# Altium footprint library 125-1189.PCBLIB: 1 footprints
Each footprint in its own frame and in the unit in brackets; x right, y up, seen from the top. Pads: shape width x height; smd on the part's side, far side on the other; paste and mask are expansions set on the pad; w line width, h text height; cw(c..) or ccw(c..) is an arc to the next point about the centre after c.
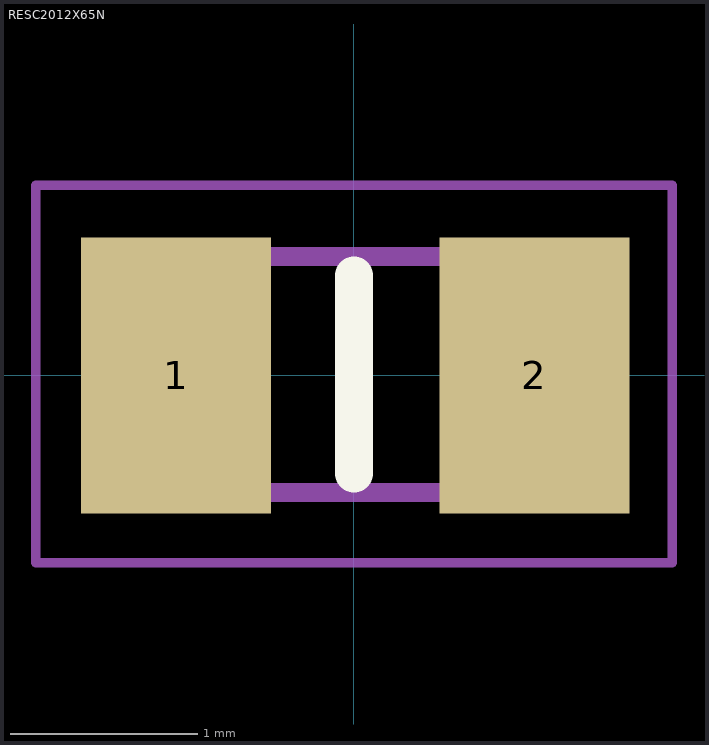
[diagram p0: the footprint, top view; thin cyan lines are the x and y axes]

## RESC2012X65N [mil]
pads (2):
  rect 40x58 smd: 1(-37.4,0) 2(38,0)
Top Overlay:
  lines w8: 0,-20.67 0,21
Courtyard Bottom:
  lines w2: -66.93,-39.37 67,-39.37 67,40 -66.93,40 -66.93,-39.37
  lines w4: -39.37,-24.61 40,-24.61 40,25 -39.37,25 -39.37,-24.61